# Altium schematic symbol library OL_B.Schlib: 1 symbol
Pins are listed as number, name and electrical type; pins without a type are passive.

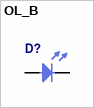
[diagram p0: symbol OL_B]

## OL_B
designator D?  (value not drawn)
LED_BLUE
pins: 1 C, 2 A